# EAGLE library part MODJACK6P6C-MJ3245-66-0 (library eagleparts)
6p6c modular jack digikey: 2073-MJ3245-66-0-ND
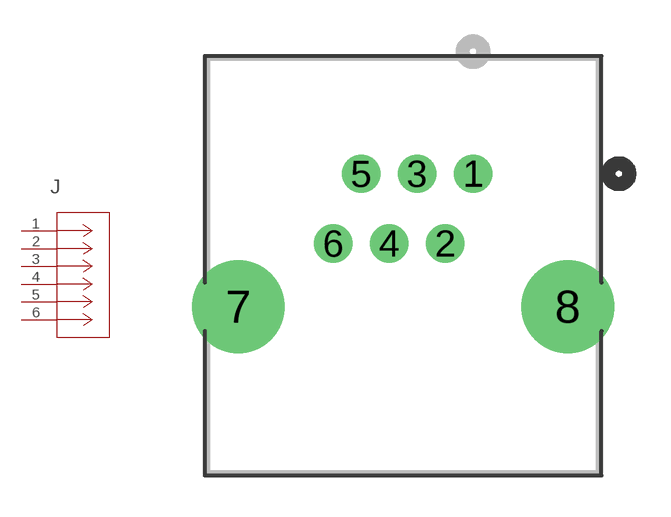
[diagram p15: symbol with the pads of CONN_MJ3245-66-0_GCT; footprint CONN_MJ3245-66-0_GCT]

Designator prefix J

## MODJACK6P6C-MJ3245-66-0CONN_MJ3245-66-0_GCT (COPYRIGHT: Copyright (C) 2024 Ultra Librarian. All rights reserved.; MANUFACTURER_PART_NUMBER: MJ3245-66-0; MFR_NAME: Global Connector Technology; TYPE: Modular Connector Jacks)  [CONN_MJ3245-66-0_GCT]
1  1  pas
2  2  pas
3  3  pas
4  4  pas
5  5  pas
6  6  pas

## Footprint CONN_MJ3245-66-0_GCT (pad centres in mm)
drill 0.889 pad 1.397: 1 0,0; 2 -1.02,-2.54; 3 -2.04,0; 4 -3.06,-2.54; 5 -4.08,0; 6 -5.1,-2.54
drill 2.362 pad 2.362: 7 -8.55,-4.84; 8 3.45,-4.84